# Altium schematic symbol library E-Lib.SchLib: 11 symbols
Pins are listed as number, name and electrical type; pins without a type are passive.

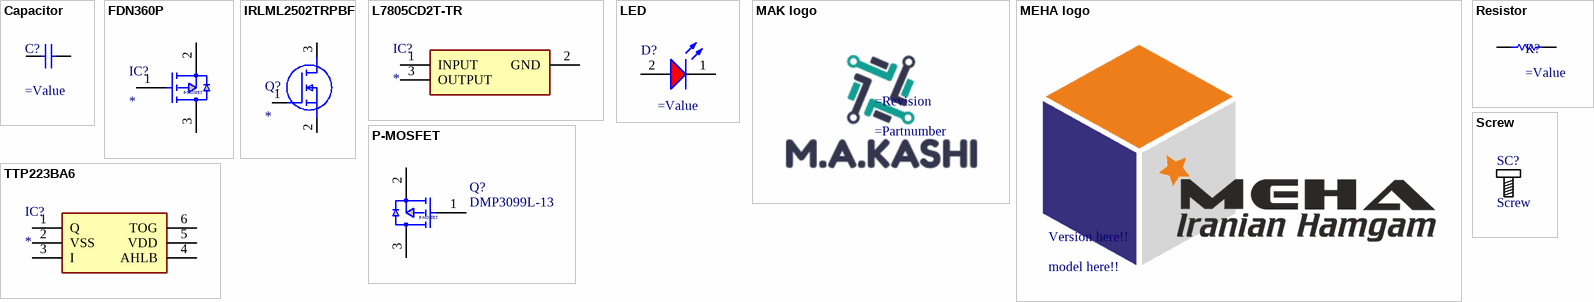
[diagram p0: symbols Capacitor to TTP223BA6]

## Capacitor
designator C?
Capacitor
pins: 1, 2

## FDN360P
designator IC?
Integrated Circuit; Manufacturer_Name: onsemi; Manufacturer_Part_Number: FDN360P; Datasheet Link: https://www.onsemi.com/pub/Collateral/FDN360P-D.PDF; Height: 1.12mm; Mouser Part Number: 512-FDN360P; Mouser Price/Stock: https://www.mouser.co.uk/ProductDetail/onsemi-Fairchild/FDN360P?qs=zGDcupr4zwN8JFelapXFpw%3D%3D; Arrow Part Number: FDN360P; Arrow Price/Stock: https://www.arrow.com/en/products/fdn360p/on-semiconductor?region=nac
footprint SOT95P251X112-3N
pins: 1 G, 2 S, 3 D
text: P-MOSFET

## IRLML2502TRPBF
designator Q?
MOSFET (N-Channel); Manufacturer_Name: Infineon; Manufacturer_Part_Number: IRLML2502TRPBF; Description: IRLML2502TRPBF N-Channel MOSFET; Datasheet Link: http://uk.rs-online.com/web/p/products/1623274; Height: 1.12mm; Mouser Part Number: 942-IRLML2502TRPBF; Mouser Price/Stock: https://www.mouser.co.uk/ProductDetail/Infineon-Technologies/IRLML2502TRPBF?qs=9%252BKlkBgLFf37zQw9UlZd%2FQ%3D%3D; Arrow Part Number: IRLML2502TRPBF; Arrow Price/Stock: https://www.arrow.com/en/products/irlml2502trpbf/infineon-technologies-ag?utm_currency=USD&region=europe
footprint SOT95P237X112-3N
pins: 1 G, 2 S, 3 D

## L7805CD2T-TR
designator IC?
Integrated Circuit; Manufacturer_Name: STMicroelectronics; Description: L7805CD2T-TR; Datasheet Link: https://www.st.com/resource/en/datasheet/l78.pdf; Height: 4.56mm; Manufacturer_Part_Number: L7805CD2T-TR; Mouser Part Number: 511-L7805CD2T-TR; Mouser Price/Stock: https://www.mouser.co.uk/ProductDetail/STMicroelectronics/L7805CD2T-TR?qs=8tkG3v2%2F4sGtQPO74MZjHw%3D%3D; Arrow Part Number: L7805CD2T-TR; Arrow Price/Stock: https://www.arrow.com/en/products/l7805cd2t-tr/stmicroelectronics?utm_currency=USD&region=europe
footprint L7805CD2T
pins: 1 INPUT, 2 GND, 3 OUTPUT

## LED
designator D?
pins: 1 K, 2 A

## MAK logo
designator =Revision  (no BOM)

## MEHA logo
designator Version here!!, comment model here!!  (no BOM)

## P-MOSFET
designator Q?, comment DMP3099L-13
Mosfet, Power; N-ch; Vdss 20V; Rds(on) 0.035 Ohm; Id 4.2A; MICRO3; Pd 1.25W; Vgs +/-12V; Manufacturer: Diodes; ID: 1; Description 1: MOSFET P-CH 30V 3.8A SOT23; Category 1: MOSFETs; Element Configuration: Single; Continuous Drain Current (ID): 3.8A; Drain to Source Resistance: 65mR; Drain to Source Voltage (Vdss): 30V; Fall Time: 15ns; Input Capacitance: 563pF; Max Power Dissipation: 1.08W; Rise Time: 5ns; Turn-Off Delay Time: 31ns; Turn-On Delay Time: 4.8ns; Drain-source On Resistance-Max: 250mR; Part Number: DMP3099L-13; Category: MOSFETs; Manufacturer 1: Diodes; Manufacturer Part Number 1: DMP3099L-13; RoHS 1: Yes; ComponentLink1URL: https://datasheet.ciiva.com/30023/dmp3099l-30023792.pdf?src-supplier=Avnet; ComponentLink1Description: https://datasheet.ciiva.com/30023/dmp3099l-30023792.pdf?src-supplier=Avnet; ComponentLink2URL: https://datasheet.ciiva.com/36526/1563649-36526014.pdf?src-supplier=Jameco; ComponentLink2Description: https://datasheet.ciiva.com/36526/1563649-36526014.pdf?src-supplier=Jameco; ComponentLink3URL: https://datasheet.ciiva.com/16425/irlml2502pbf-16425943.pdf?src-supplier=Future+Electronics; ComponentLink3Description: https://datasheet.ciiva.com/16425/irlml2502pbf-16425943.pdf?src-supplier=Future+Electronics; ComponentLink4URL: https://datasheet.ciiva.com/6156/irlml2502-6156070.pdf?src-supplier=Farnell; ComponentLink4Description: https://datasheet.ciiva.com/6156/irlml2502-6156070.pdf?src-supplier=Farnell; ComponentLink5URL: https://datasheet.ciiva.com/7935/irlml2502-7935685.pdf?src-supplier=Element14; ComponentLink5Description: https://datasheet.ciiva.com/7935/irlml2502-7935685.pdf?src-supplier=Element14; Supplier 1: Digi-Key; Supplier Part Number 1: DMP3099L-13DICT-ND; Pricing 1: 1=0.37000, 10=0.27700, 100=0.15700, 500=0.10396, 1000=0.07970, 2000=0.06930, 5000=0.06237 (USD); Case/Package: TO-236-3; Current Rating: 4.2A; Height: 1.02mm; Lead Free: Lead Free; Length: 2.8mm; Manufacturer Part Number: DMP3099L-13; Max Operating Temperature: 150°C; Min Operating Temperature: -55°C; Mount: Surface Mount; Number of Pins: 3; Package Quantity: 10000; Packaging: Tape and Reel; Radiation Hardening: No; REACH SVHC: No SVHC; RoHS Compliant: Yes; Series: HEXFET®; Termination: SMD/SMT; Voltage Rating (DC): 20V; Weight: 0.000282oz; Width: 1.4mm; Gate to Source Voltage (Vgs): 20V; Number of Channels: 1; Rds On Max: 65mR; RoHS: Yes
footprint Diodes-SOT23-A
footprint Diodes-SOT23-B
footprint Diodes-SOT23-C
pins: 1 G, 2 S, 3 D

## Resistor
designator R?
pins: 1, 2

## Screw
designator SC?  (no BOM)

## TTP223BA6
designator IC?
Integrated Circuit; Manufacturer_Name: TONTEK; Manufacturer_Part_Number: TTP223BA6; Datasheet Link: https://www.tontek.com.tw/uploads/product/243/TTP223-BA6_V2.1_EN.pdf; Height: 1.26mm
footprint SOT95P285X126-6N
pins: 1 Q, 2 VSS, 3 I, 4 AHLB, 5 VDD, 6 TOG